# Altium schematic symbol library Pin.SchLib: 1 symbol
Pins are listed as number, name and electrical type; pins without a type are passive.

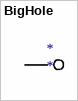
[diagram p0: symbol BigHole]

## BigHole
designator *
footprint BigHole
footprint MEDHOLE
pins: 1 Pin?